# Altium footprint library C1206.PcbLib: 1 footprints
Each footprint in its own frame and in the unit in brackets; x right, y up, seen from the top. Pads: shape width x height; smd on the part's side, far side on the other; paste and mask are expansions set on the pad; w line width, h text height; cw(c..) or ccw(c..) is an arc to the next point about the centre after c.
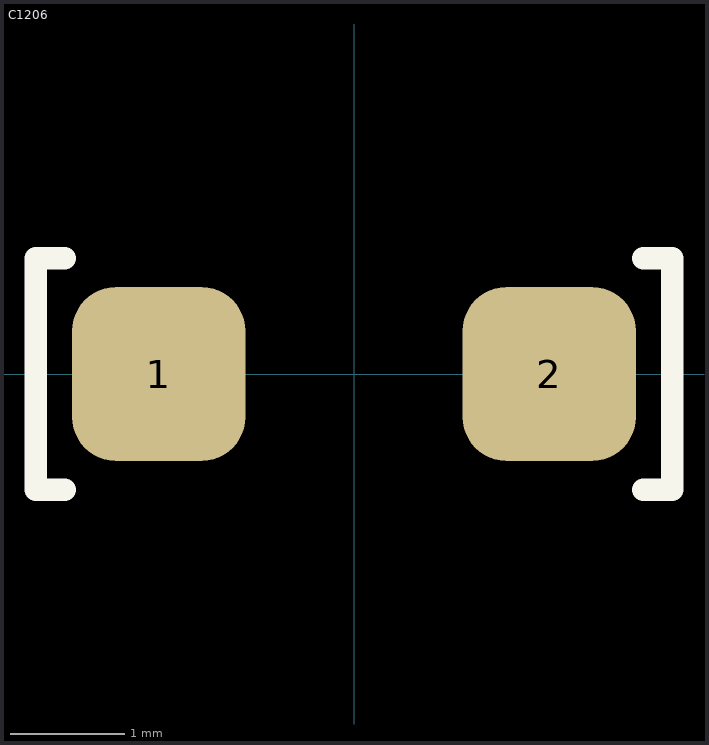
[diagram p0: the footprint, top view; thin cyan lines are the x and y axes]

## C1206 [mil]
pads (2):
  rrect50% 60x60 smd: 1(-67.5,0) 2(67.5,0)
Top Overlay:
  lines w7.87: -100,-40 -110,-40 -110,40 -100,40 ; 100,-40 110,-40 110,40 100,40
3D body: height 39.45, standoff 0, extent -62.99,-32 62.99,30.99